# EAGLE library part POLOLU-A4988 (library gaow-custom)
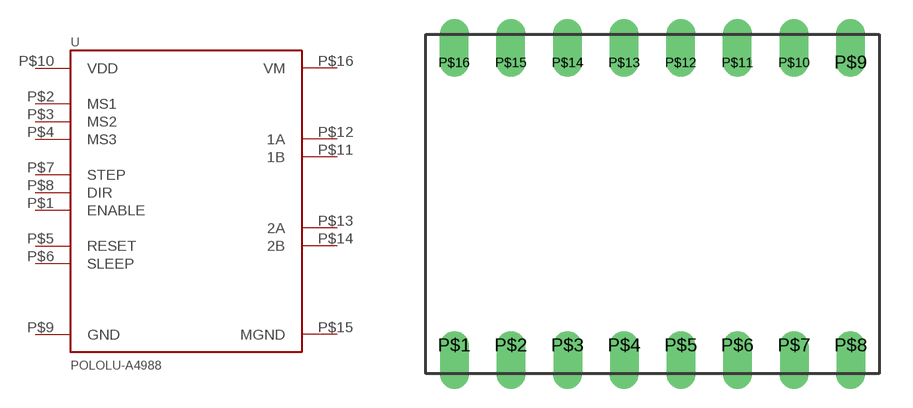
[diagram p0: symbol with the pads of POLOLU-STEPPER-DRIVER; footprint POLOLU-STEPPER-DRIVER]

Designator prefix -

## POLOLU-A4988-NORMAL  [POLOLU-STEPPER-DRIVER]
P$1  ENABLE
P$2  MS1
P$3  MS2
P$4  MS3
P$5  RESET
P$6  SLEEP
P$7  STEP
P$8  DIR
P$9  GND
P$10  VDD
P$11  1B
P$12  1A
P$13  2A
P$14  2B
P$15  MGND
P$16  VM

## POLOLU-A4988-BLACK  [POLOLU-STEPPER-DRIVER]
Pads as for POLOLU-STEPPER-DRIVER

## Footprint POLOLU-STEPPER-DRIVER (pad centres in mm)
drill 0.8 offset: P$1 0,0; P$2 2.54,0; P$3 5.08,0; P$4 7.62,0; P$5 10.16,0; P$6 12.7,0; P$7 15.24,0; P$8 17.78,0; P$9 17.78,12.7; P$10 15.24,12.7; P$11 12.7,12.7; P$12 10.16,12.7; P$13 7.62,12.7; P$14 5.08,12.7; P$15 2.54,12.7; P$16 0,12.7